# Altium schematic symbol library IR2184S.SchLib: 1 symbol
Pins are listed as number, name and electrical type; pins without a type are passive.

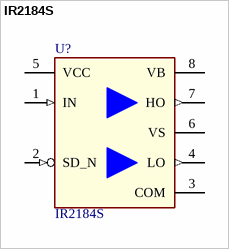
[diagram p0: symbol IR2184S]

## IR2184S
designator U?
Half-Bridge Driver; Manufacturer: Infineon Technologies; Manufacturer Order Number: IR2184S; PackageReference: PG-DSO-8-910
footprint SOIC127P600X175-8N-12-V (SOIC,1.27mm pitch;8 pin,3.90mm W X 4.90mm L X 1.75mm H body)
pins: 1 IN (in) "Logic input for high-side and low-side gate driver outputs (HO and LO)", 2 SD_N (in) "Logic Input for Shutdown", 3 COM "Low Side Return", 4 LO (out) "Low side gate drive output", 5 VCC (power) "Low-side and logic fixed supply", 6 VS (power) "High-side floating supply return", 7 HO (out) "High-side gate drive output", 8 VB (power) "High-side floating supply"